# EAGLE library part 4840388 (library ampex)
MM1200- Audio Switcher
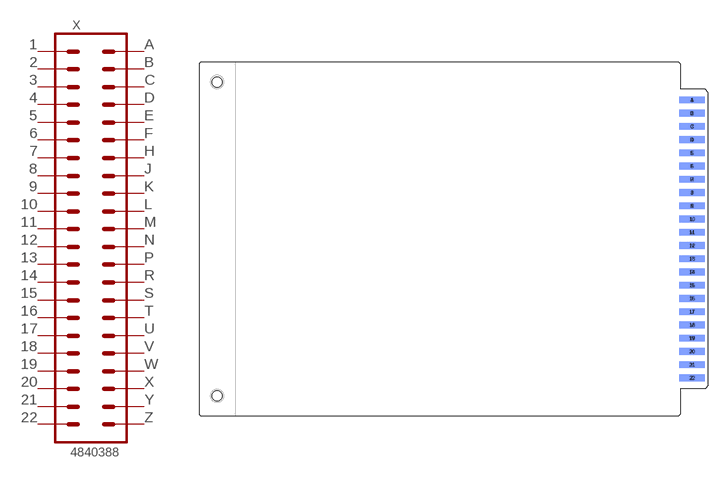
[diagram p5: symbol with the pads of 4840388; footprint 4840388]

Designator prefix X

## 4840388  [4840388]
1  1  pas
2  2  pas
3  3  pas
4  4  pas
5  5  pas
6  6  pas
7  7  pas
8  8  pas
9  9  pas
10  10  pas
11  11  pas
12  12  pas
13  13  pas
14  14  pas
15  15  pas
16  16  pas
17  17  pas
18  18  pas
19  19  pas
20  20  pas
21  21  pas
22  22  pas
A  A  pas
B  B  pas
C  C  pas
D  D  pas
E  E  pas
F  F  pas
H  H  pas
J  J  pas
K  K  pas
L  L  pas
M  M  pas
N  N  pas
P  P  pas
R  R  pas
S  S  pas
T  T  pas
U  U  pas
V  V  pas
W  W  pas
X  X  pas
Y  Y  pas
Z  Z  pas

## Footprint 4840388 (pad centres in mm)
MM1200 - AUDIO SWITCHER
smd 7.62 x 2.032 bottom: 1 -4.953,41.605; 2 -4.953,37.643; 3 -4.953,33.68; 4 -4.953,29.718; 5 -4.953,25.756; 6 -4.953,21.793; 7 -4.953,17.831; 8 -4.953,13.868; 9 -4.953,9.906; 10 -4.953,5.944; 11 -4.953,1.981; 12 -4.953,-1.981; 13 -4.953,-5.944; 14 -4.953,-9.906; 15 -4.953,-13.868; 16 -4.953,-17.831; 17 -4.953,-21.793; 18 -4.953,-25.756; 19 -4.953,-29.718; 20 -4.953,-33.68; 21 -4.953,-37.643; 22 -4.953,-41.605
smd 7.62 x 2.032: A -4.953,41.605; B -4.953,37.643; C -4.953,33.68; D -4.953,29.718; E -4.953,25.756; F -4.953,21.793; H -4.953,17.831; J -4.953,13.868; K -4.953,9.906; L -4.953,5.944; M -4.953,1.981; N -4.953,-1.981; P -4.953,-5.944; R -4.953,-9.906; S -4.953,-13.868; T -4.953,-17.831; U -4.953,-21.793; V -4.953,-25.756; W -4.953,-29.718; X -4.953,-33.68; Y -4.953,-37.643; Z -4.953,-41.605
hole 2.946 at -147.104,46.99
hole 2.946 at -147.104,-46.99